# Altium schematic symbol library Connectors.SchLib: 55 symbols
Pins are listed as number, name and electrical type; pins without a type are passive.

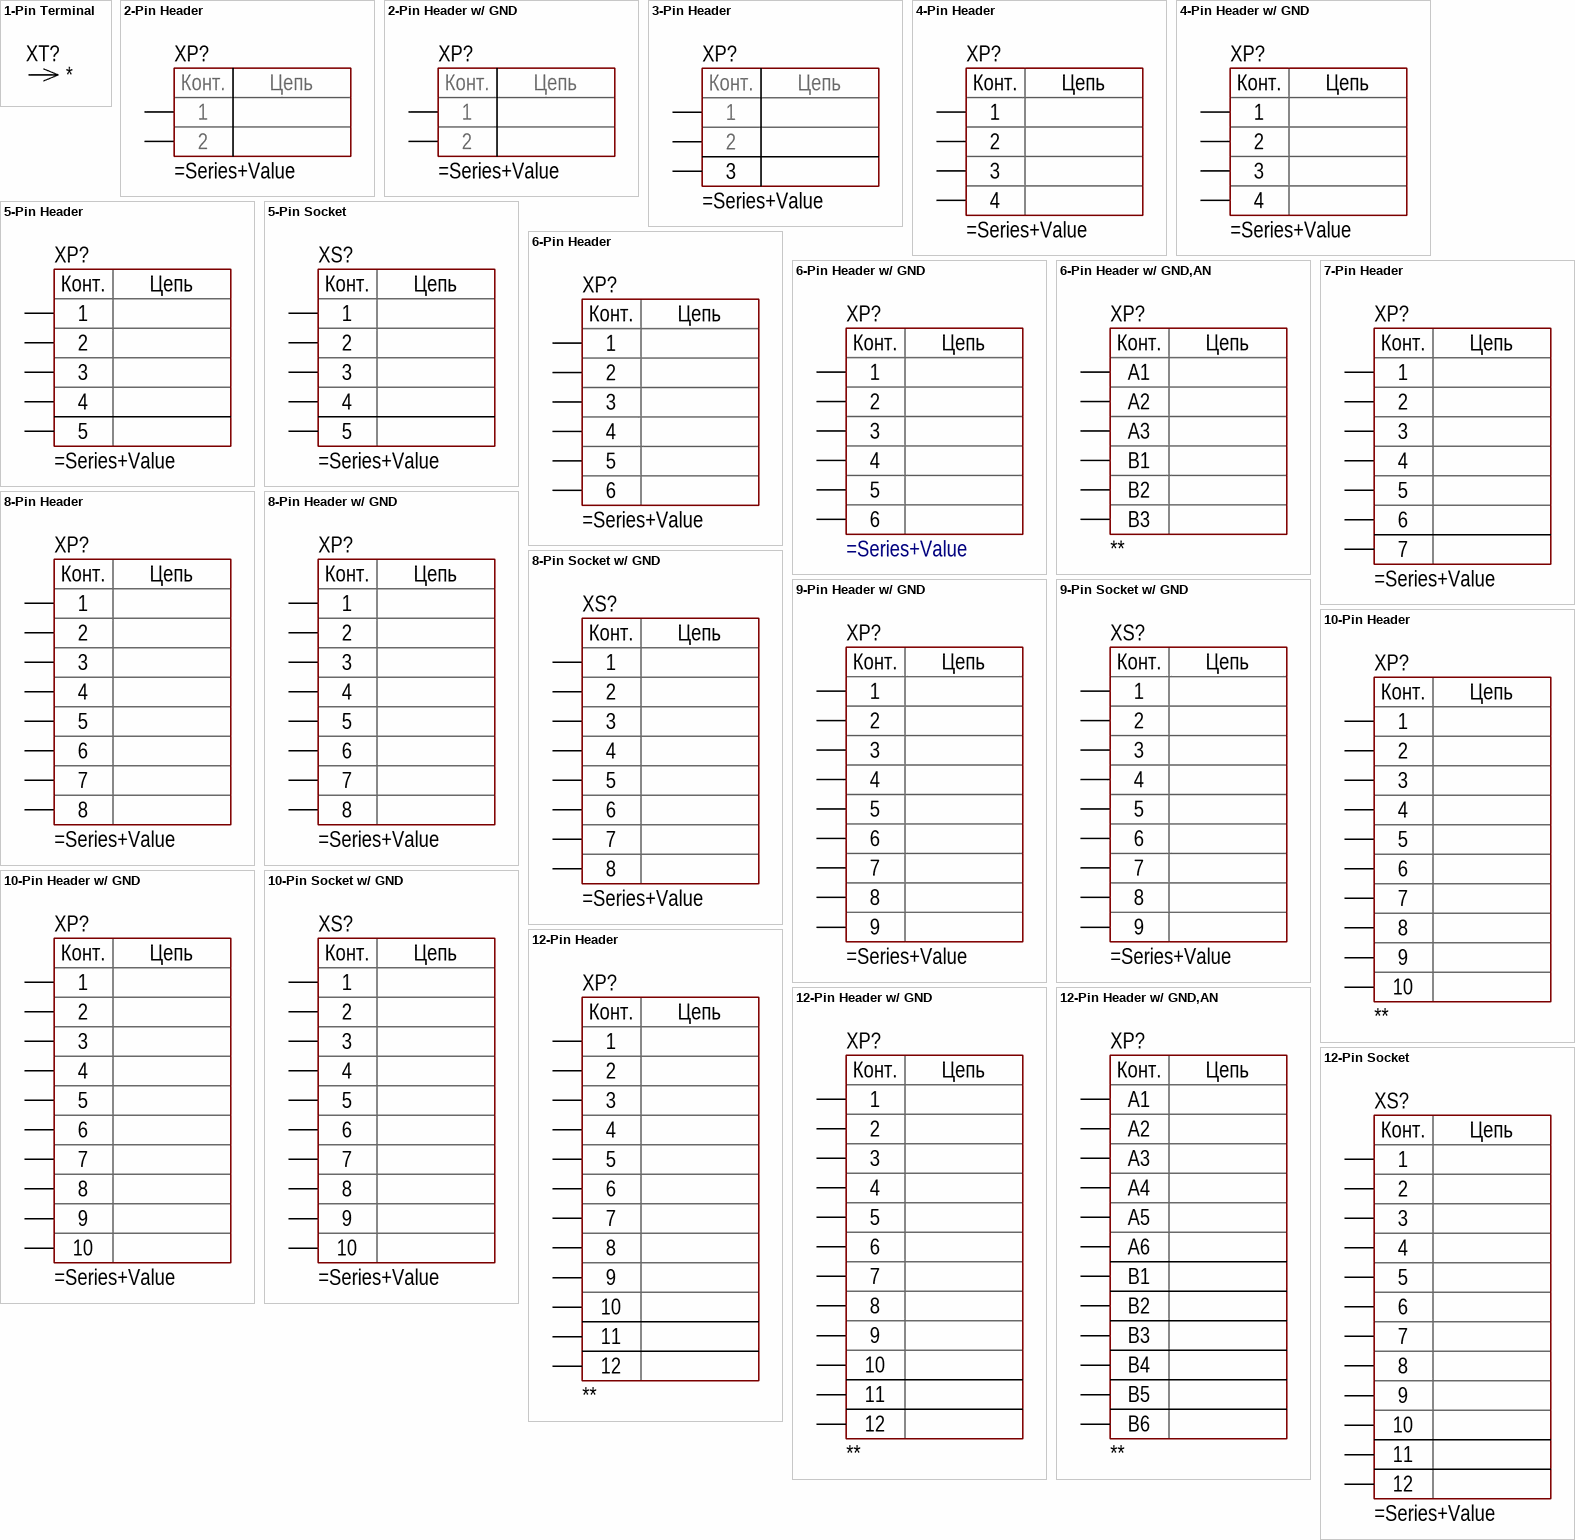
[diagram p0: symbols 1-Pin Terminal to 12-Pin Socket]

## 1-Pin Terminal
designator XT?
Generic 1-Pin Terminal; NetName: *
pins: 1

## 2-Pin Header
designator XP?
Generic 2-Pin Header
pins: 1, 2
text: Конт.; Цепь

## 2-Pin Header w/ GND
designator XP?
Generic 2-Pin Header with GND Pads
pins: 0 hidden to GND, 1, 2
text: Конт.; Цепь

## 3-Pin Header
designator XP?
Generic 3-Pin Header
pins: 1, 2, 3
text: Конт.; Цепь

## 4-Pin Header
designator XP?
Generic 4-Pin Header
pins: 1, 2, 3, 4
text: Конт.; Цепь

## 4-Pin Header w/ GND
designator XP?
Generic 4-Pin Header with GND Pads
pins: 0 hidden to GND, 1, 2, 3, 4
text: Конт.; Цепь

## 5-Pin Header
designator XP?
Generic 5-Pin Header
pins: 1, 2, 3, 4, 5
text: Конт.; Цепь

## 5-Pin Socket
designator XS?
Generic 5-Pin Socket
pins: 1, 2, 3, 4, 5
text: Конт.; Цепь

## 6-Pin Header
designator XP?
Generic 6-Pin Header
pins: 1, 2, 3, 4, 5, 6
text: Конт.; Цепь

## 6-Pin Header w/ GND
designator XP?
Generic 6-Pin Header with GND Pads
pins: 0 hidden to GND, 1, 2, 3, 4, 5, 6
text: Конт.; Цепь

## 6-Pin Header w/ GND,AN
designator XP?, comment **
Generic 6-Pin Header with GND Pads, Alpha-Numeric; Series: *; Value: *; Vendor: *
pins: 0 GND hidden to GND, A1, A2, A3, B1, B2, B3
text: Конт.; Цепь

## 7-Pin Header
designator XP?
Generic 7-Pin Header
pins: 1, 2, 3, 4, 5, 6, 7
text: Конт.; Цепь

## 8-Pin Header
designator XP?
Generic 8-Pin Header
pins: 1, 2, 3, 4, 5, 6, 7, 8
text: Конт.; Цепь

## 8-Pin Header w/ GND
designator XP?
Generic 8-Pin Header witn GND Pads
pins: 0 GND hidden to GND, 1, 2, 3, 4, 5, 6, 7, 8
text: Конт.; Цепь

## 8-Pin Socket w/ GND
designator XS?
Generic 8-Pin Socket witn GND Pads
pins: 0 GND hidden to GND, 1, 2, 3, 4, 5, 6, 7, 8
text: Конт.; Цепь

## 9-Pin Header w/ GND
designator XP?
Generic 9-Pin Header witn GND Pads
pins: 0 hidden to GND, 1, 2, 3, 4, 5, 6, 7, 8, 9
text: Конт.; Цепь

## 9-Pin Socket w/ GND
designator XS?
Generic 9-Pin Socket witn GND Pads
pins: 0 hidden to GND, 1, 2, 3, 4, 5, 6, 7, 8, 9
text: Конт.; Цепь

## 10-Pin Header
designator XP?, comment **
Generic 10-Pin Header; Series: *; Value: *; Vendor: *
pins: 1, 2, 3, 4, 5, 6, 7, 8, 9, 10
text: Конт.; Цепь

## 10-Pin Header w/ GND
designator XP?
Generic 10-Pin Header with GND Pads
pins: 0 hidden to GND, 1, 2, 3, 4, 5, 6, 7, 8, 9, 10
text: Конт.; Цепь

## 10-Pin Socket w/ GND
designator XS?
Generic 10-Pin Socket with GND Pads
pins: 0 hidden to GND, 1, 2, 3, 4, 5, 6, 7, 8, 9, 10
text: Конт.; Цепь

## 12-Pin Header
designator XP?, comment **
Generic 12-Pin Header; Series: *; Value: *; Vendor: *
pins: 1, 2, 3, 4, 5, 6, 7, 8, 9, 10, 11, 12
text: Конт.; Цепь

## 12-Pin Header w/ GND
designator XP?, comment **
Generic 12-Pin Header with GND Pads; Series: *; Value: *; Vendor: *
pins: 0 hidden to GND, 1, 2, 3, 4, 5, 6, 7, 8, 9, 10, 11, 12
text: Конт.; Цепь

## 12-Pin Header w/ GND,AN
designator XP?, comment **
Generic 12-Pin Header with GND Pads, Alpha-Numeric; Series: *; Value: *; Vendor: *
pins: 0 GND hidden to GND, A1, A2, A3, A4, A5, A6, B1, B2, B3, B4, B5, B6
text: Конт.; Цепь

## 12-Pin Socket
designator XS?
Generic 12-Pin Socket
pins: 1, 2, 3, 4, 5, 6, 7, 8, 9, 10, 11, 12
text: Конт.; Цепь

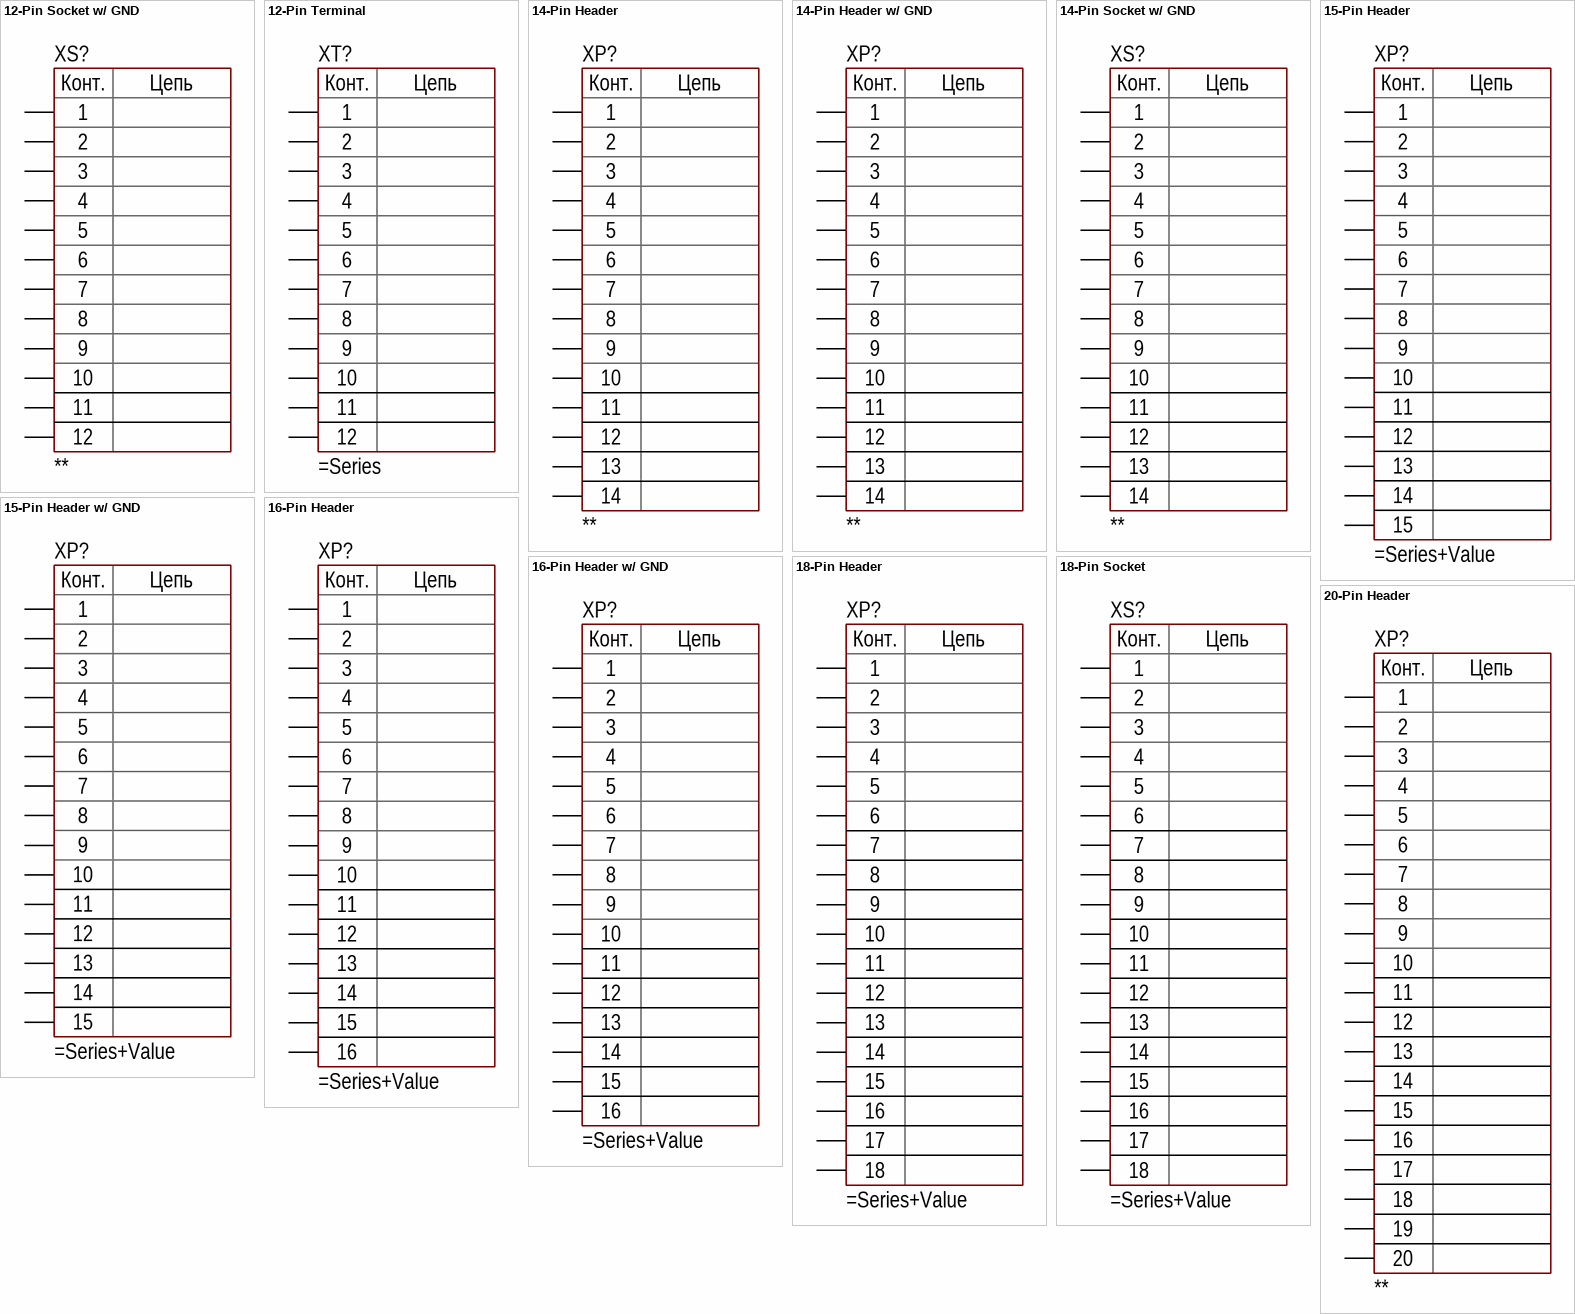
[diagram p1: symbols 12-Pin Socket w/ GND to 20-Pin Header]

## 12-Pin Socket w/ GND
designator XS?, comment **
Generic 12-Pin Socket with GND Pads; Series: *; Value: *; Vendor: *
pins: 0 hidden to GND, 1, 2, 3, 4, 5, 6, 7, 8, 9, 10, 11, 12
text: Конт.; Цепь

## 12-Pin Terminal
designator XT?
Generic 12-Pin Terminal
pins: 1, 2, 3, 4, 5, 6, 7, 8, 9, 10, 11, 12
text: Конт.; Цепь

## 14-Pin Header
designator XP?, comment **
Generic 14-Pin Header; Series: *; Value: *; Vendor: *
pins: 1, 2, 3, 4, 5, 6, 7, 8, 9, 10, 11, 12, 13, 14
text: Конт.; Цепь

## 14-Pin Header w/ GND
designator XP?, comment **
Generic 14-Pin Header with GND Pads; Series: *; Value: *; Vendor: *
pins: 0 hidden to GND, 1, 2, 3, 4, 5, 6, 7, 8, 9, 10, 11, 12, 13, 14
text: Конт.; Цепь

## 14-Pin Socket w/ GND
designator XS?, comment **
Generic 14-Pin Socket with GND Pads; Series: *; Value: *; Vendor: *
pins: 0 hidden to GND, 1, 2, 3, 4, 5, 6, 7, 8, 9, 10, 11, 12, 13, 14
text: Конт.; Цепь

## 15-Pin Header
designator XP?
Generic 15-Pin Header
pins: 1, 2, 3, 4, 5, 6, 7, 8, 9, 10, 11, 12, 13, 14, 15
text: Конт.; Цепь

## 15-Pin Header w/ GND
designator XP?
Generic 15-Pin Header with GND Pads
pins: 0 hidden to GND, 1, 2, 3, 4, 5, 6, 7, 8, 9, 10, 11, 12, 13, 14, 15
text: Конт.; Цепь

## 16-Pin Header
designator XP?
Generic 16-Pin Header
pins: 1, 2, 3, 4, 5, 6, 7, 8, 9, 10, 11, 12, 13, 14, 15, 16
text: Конт.; Цепь

## 16-Pin Header w/ GND
designator XP?
Generic 16-Pin Header with GND Pads
pins: 0 hidden to GND, 1, 2, 3, 4, 5, 6, 7, 8, 9, 10, 11, 12, 13, 14, 15, 16
text: Конт.; Цепь

## 18-Pin Header
designator XP?
Generic 18-Pin Header
pins: 1, 2, 3, 4, 5, 6, 7, 8, 9, 10, 11, 12, 13, 14, 15, 16, 17, 18
text: Конт.; Цепь

## 18-Pin Socket
designator XS?
Generic 18-Pin Socket
pins: 1, 2, 3, 4, 5, 6, 7, 8, 9, 10, 11, 12, 13, 14, 15, 16, 17, 18
text: Конт.; Цепь

## 20-Pin Header
designator XP?, comment **
Generic 20-Pin Header; Series: *; Value: *; Vendor: *
pins: 1, 2, 3, 4, 5, 6, 7, 8, 9, 10, 11, 12, 13, 14, 15, 16, 17, 18, 19, 20
text: Конт.; Цепь

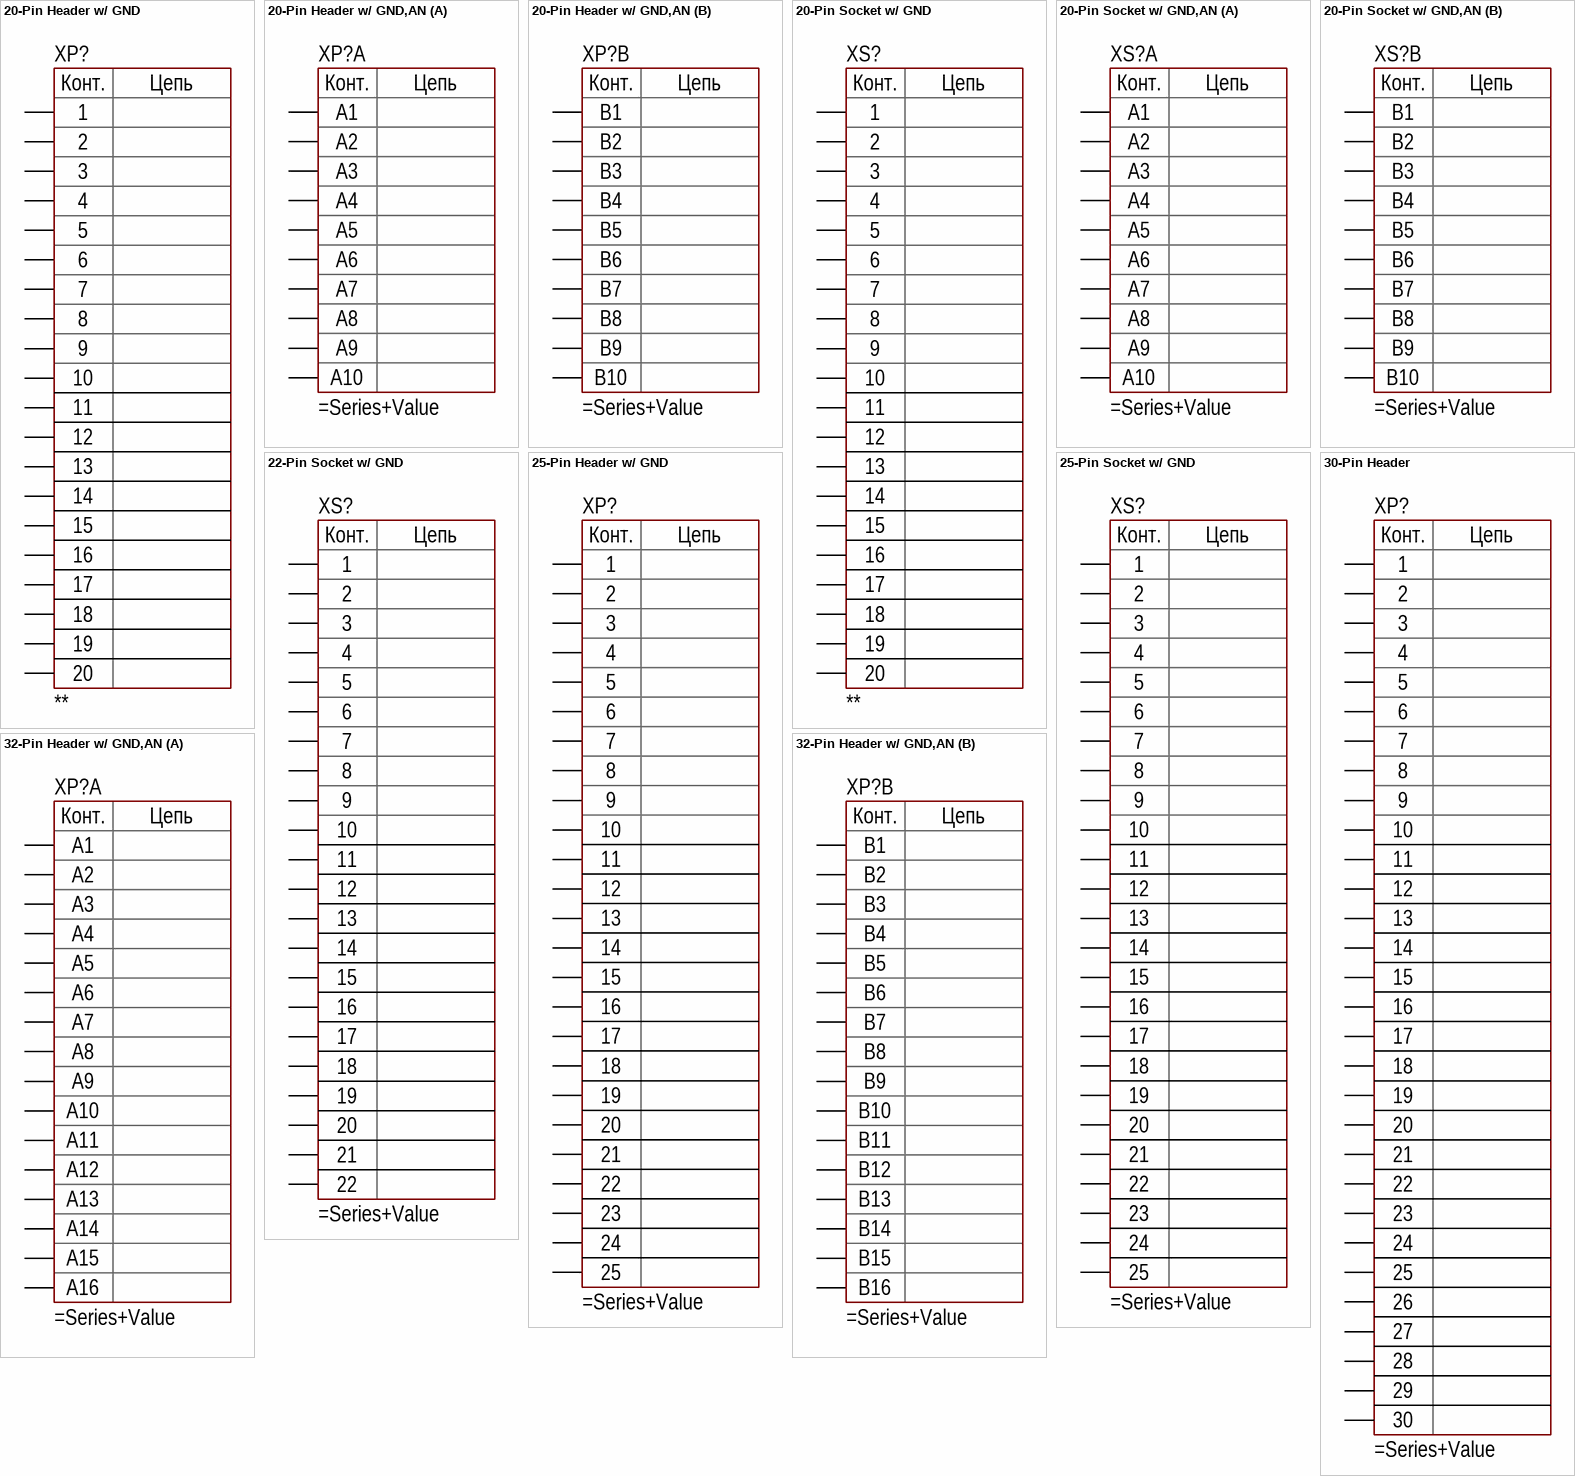
[diagram p2: symbols 20-Pin Header w/ GND to 32-Pin Header w/ GND,AN]

## 20-Pin Header w/ GND
designator XP?, comment **
Generic 20-Pin Header with GND Pads; Series: *; Value: *; Vendor: *
pins: 0 GND hidden to GND, 1, 2, 3, 4, 5, 6, 7, 8, 9, 10, 11, 12, 13, 14, 15, 16, 17, 18, 19, 20
text: Конт.; Цепь

## 20-Pin Header w/ GND,AN
designator XP?
Generic 20-Pin Header with GND Pads, Alpha-Numeric
part A pins: 0 GND hidden to GND, A1, A2, A3, A4, A5, A6, A7, A8, A9, A10
part B pins: B1, B2, B3, B4, B5, B6, B7, B8, B9, B10
part A text: Конт.; Цепь
part B text: Конт.; Цепь

## 20-Pin Socket w/ GND
designator XS?, comment **
Generic 20-Pin Socket with GND Pads; Series: *; Value: *; Vendor: *
pins: 0 GND hidden to GND, 1, 2, 3, 4, 5, 6, 7, 8, 9, 10, 11, 12, 13, 14, 15, 16, 17, 18, 19, 20
text: Конт.; Цепь

## 20-Pin Socket w/ GND,AN
designator XS?
Generic 20-Pin Header with GND Pads, Alpha-Numeric
part A pins: 0 GND hidden to GND, A1, A2, A3, A4, A5, A6, A7, A8, A9, A10
part B pins: B1, B2, B3, B4, B5, B6, B7, B8, B9, B10
part A text: Конт.; Цепь
part B text: Конт.; Цепь

## 22-Pin Socket w/ GND
designator XS?
Generic 22-Pin Socket with GND Pads
pins: 0 hidden to GND, 1, 2, 3, 4, 5, 6, 7, 8, 9, 10, 11, 12, 13, 14, 15, 16, 17, 18, 19, 20, 21, 22
text: Конт.; Цепь

## 25-Pin Header w/ GND
designator XP?
Generic 25-Pin Header with GND Pads
pins: 0 GND hidden to GND, 1, 2, 3, 4, 5, 6, 7, 8, 9, 10, 11, 12, 13, 14, 15, 16, 17, 18, 19, 20, 21, 22, 23, 24, 25
text: Конт.; Цепь

## 25-Pin Socket w/ GND
designator XS?
Generic 25-Pin Socket with GND Pads
pins: 0 hidden to GND, 1, 2, 3, 4, 5, 6, 7, 8, 9, 10, 11, 12, 13, 14, 15, 16, 17, 18, 19, 20, 21, 22, 23, 24, 25
text: Конт.; Цепь

## 30-Pin Header
designator XP?
Generic 30-Pin Header
pins: 1, 2, 3, 4, 5, 6, 7, 8, 9, 10, 11, 12, 13, 14, 15, 16, 17, 18, 19, 20, 21, 22, 23, 24, 25, 26, 27, 28, 29, 30
text: Конт.; Цепь

## 32-Pin Header w/ GND,AN
designator XP?
Generic 32-Pin Header with GND Pads, Alpha-Numeric
part A pins: 0 GND hidden to GND, A1, A2, A3, A4, A5, A6, A7, A8, A9, A10, A11, A12, A13, A14, A15, A16
part B pins: B1, B2, B3, B4, B5, B6, B7, B8, B9, B10, B11, B12, B13, B14, B15, B16
part A text: Конт.; Цепь
part B text: Конт.; Цепь

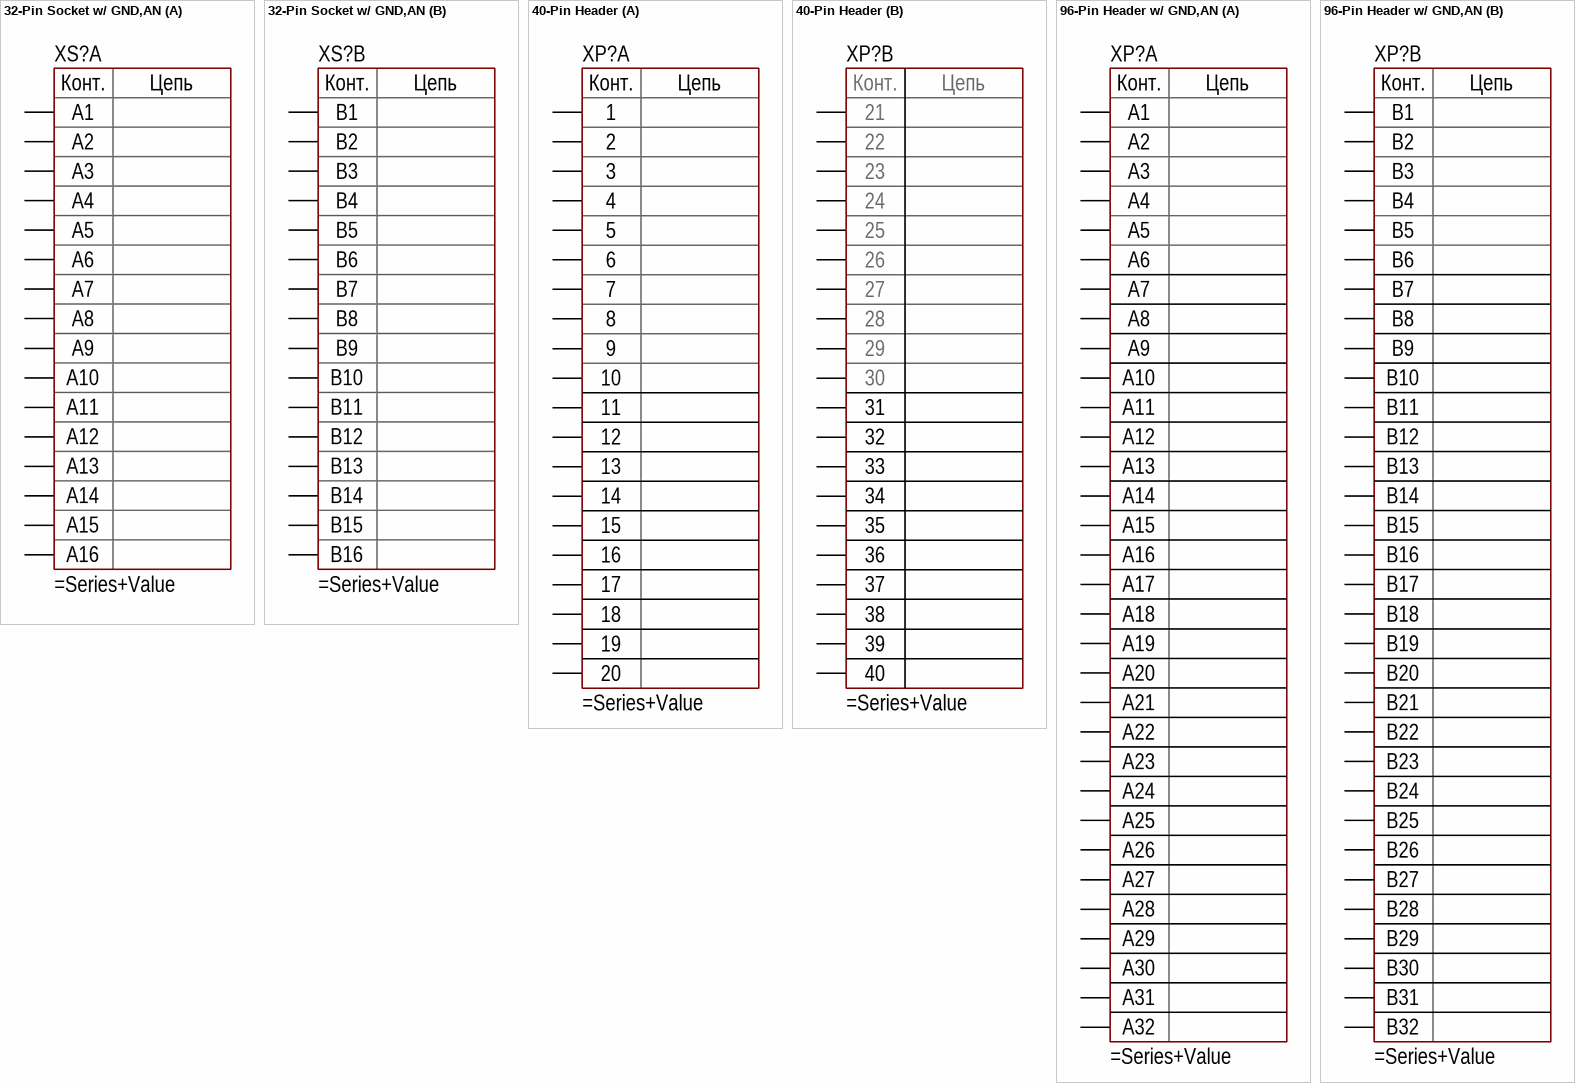
[diagram p3: symbols 32-Pin Socket w/ GND,AN to 96-Pin Header w/ GND,AN]

## 32-Pin Socket w/ GND,AN
designator XS?
Generic 32-Pin Header with GND Pads, Alpha-Numeric
part A pins: 0 GND hidden to GND, A1, A2, A3, A4, A5, A6, A7, A8, A9, A10, A11, A12, A13, A14, A15, A16
part B pins: B1, B2, B3, B4, B5, B6, B7, B8, B9, B10, B11, B12, B13, B14, B15, B16
part A text: Конт.; Цепь
part B text: Конт.; Цепь

## 40-Pin Header
designator XP?
Generic 40-Pin Header
part A pins: 1, 2, 3, 4, 5, 6, 7, 8, 9, 10, 11, 12, 13, 14, 15, 16, 17, 18, 19, 20
part B pins: 21, 22, 23, 24, 25, 26, 27, 28, 29, 30, 31, 32, 33, 34, 35, 36, 37, 38, 39, 40
part A text: Конт.; Цепь
part B text: Конт.; Цепь

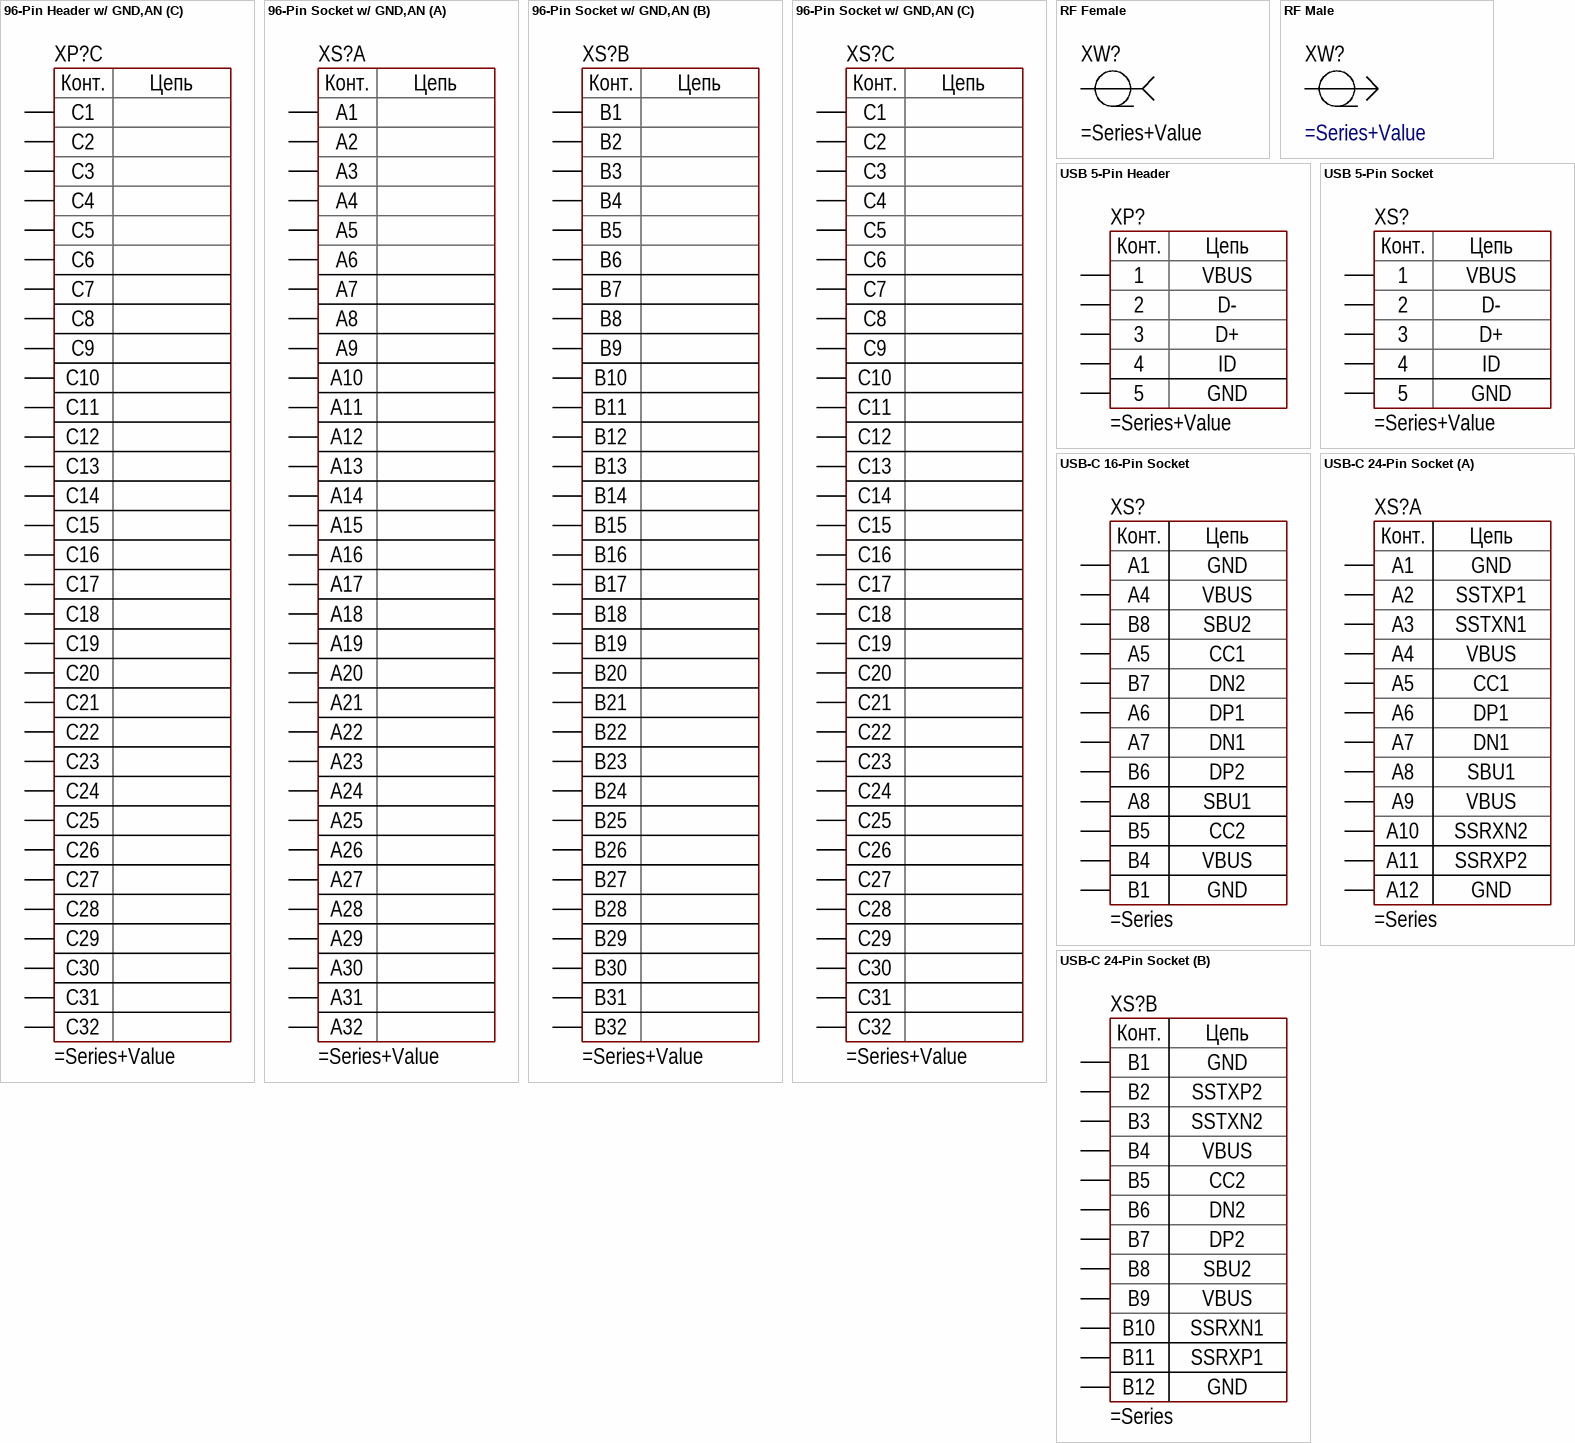
[diagram p4: symbols 96-Pin Header w/ GND,AN to USB-C 24-Pin Socket]

## 96-Pin Header w/ GND,AN
designator XP?
Generic 96-Pin Header with GND Pads, Alpha-Numeric
part A pins: 0 hidden to GND, A1, A2, A3, A4, A5, A6, A7, A8, A9, A10, A11, A12, A13, A14, A15, A16, A17, A18, A19, A20, A21, A22, A23, A24, A25, A26, A27, A28, A29, A30, A31, A32
part B pins: B1, B2, B3, B4, B5, B6, B7, B8, B9, B10, B11, B12, B13, B14, B15, B16, B17, B18, B19, B20, B21, B22, B23, B24, B25, B26, B27, B28, B29, B30, B31, B32
part C pins: C1, C2, C3, C4, C5, C6, C7, C8, C9, C10, C11, C12, C13, C14, C15, C16, C17, C18, C19, C20, C21, C22, C23, C24, C25, C26, C27, C28, C29, C30, C31, C32
part A text: Конт.; Цепь
part B text: Конт.; Цепь
part C text: Конт.; Цепь

## 96-Pin Socket w/ GND,AN
designator XS?
Generic 96-Pin Socket with GND Pads, Alpha-Numeric
part A pins: 0 hidden to GND, A1, A2, A3, A4, A5, A6, A7, A8, A9, A10, A11, A12, A13, A14, A15, A16, A17, A18, A19, A20, A21, A22, A23, A24, A25, A26, A27, A28, A29, A30, A31, A32
part B pins: B1, B2, B3, B4, B5, B6, B7, B8, B9, B10, B11, B12, B13, B14, B15, B16, B17, B18, B19, B20, B21, B22, B23, B24, B25, B26, B27, B28, B29, B30, B31, B32
part C pins: C1, C2, C3, C4, C5, C6, C7, C8, C9, C10, C11, C12, C13, C14, C15, C16, C17, C18, C19, C20, C21, C22, C23, C24, C25, C26, C27, C28, C29, C30, C31, C32
part A text: Конт.; Цепь
part B text: Конт.; Цепь
part C text: Конт.; Цепь

## RF Female
designator XW?
Generic RF Female Connector
pins: 1 IO, 2 GND hidden to GND

## RF Male
designator XW?
Generic RF Male Connector
pins: 1 IO, 2 GND hidden to GND

## USB 5-Pin Header
designator XP?
Generic 5-Pin USB Header
pins: 0 hidden to GND, 1, 2, 3, 4, 5
text: Конт.; Цепь; VBUS; D-; D+; ID; GND

## USB 5-Pin Socket
designator XS?
Generic 5-Pin USB Socket
pins: 0 hidden to GND, 1, 2, 3, 4, 5
text: Конт.; Цепь; VBUS; D-; D+; ID; GND

## USB-C 16-Pin Socket
designator XS?
Generic USB-C 16-Pin Socket
pins: 0 hidden to GND, A1, A4, A5, A6, A7, A8, B1, B4, B5, B6, B7, B8
text: Конт.; Цепь; GND; VBUS; SBU2; CC1; DN2; DP1; DN1; DP2; SBU1; CC2

## USB-C 24-Pin Socket
designator XS?
Generic 24-Pin USB-C Socket
part A pins: 0 GND hidden to GND, A1, A2, A3, A4, A5, A6, A7, A8, A9, A10, A11, A12
part B pins: B1, B2, B3, B4, B5, B6, B7, B8, B9, B10, B11, B12
part A text: Конт.; Цепь; SSTXP1; SSTXN1; VBUS; CC1; DP1; DN1; SBU1; SSRXN2; SSRXP2
part B text: Конт.; Цепь; SSTXP2; SSTXN2; VBUS; CC2; DN2; DP2; SBU2; SSRXN1; SSRXP1